# Altium schematic symbol library AU0005_1.SCHLIB: 83 symbols (part 2 of 2)
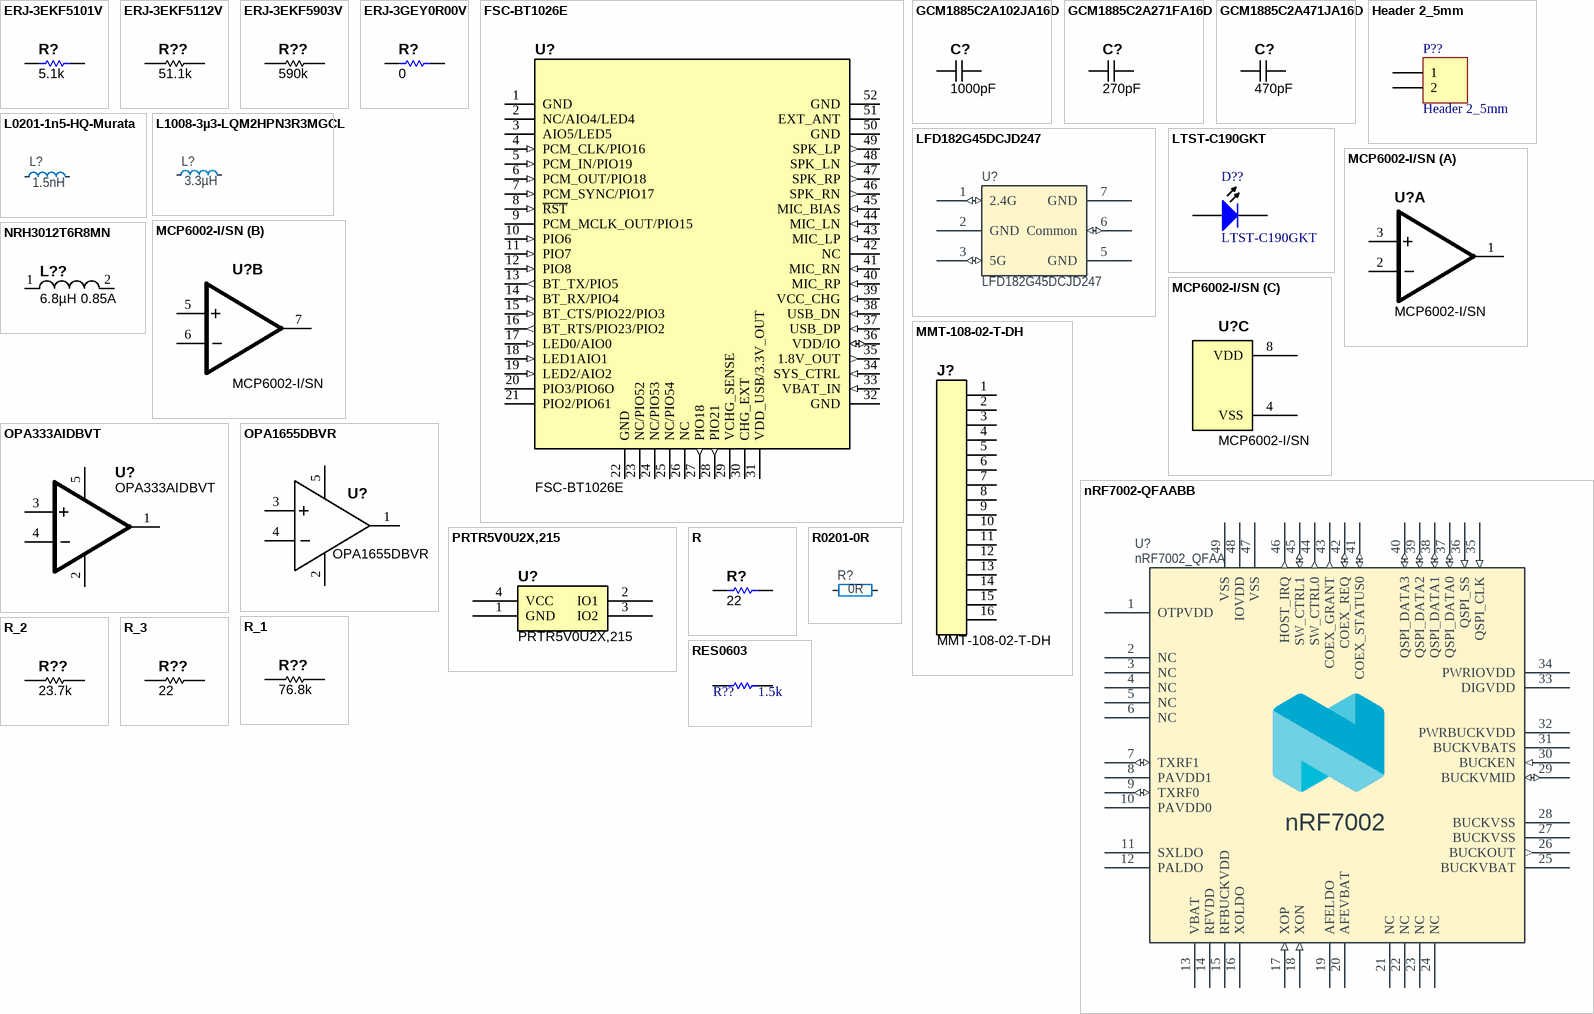
[diagram p3: symbols ERJ-3EKF5101V to RES0603]

## LTST-C190GKT
designator D??
LED Uni-Color Green 565nm 2-Pin Chip LED T/R; Manufacturer: Vishay Lite-On; Lens Color: Colorless; Luminous Intensity: 6mcd; Forward Voltage: 2.1V; Viewing Angle: 130°; Lens Style: Flat,Diffused,Colorless,Rectangular,Clear; Forward Current: 30mA; Dominant Wavelength: 569nm; Test Current: 10mA; Lens Transparency: Clear; Number of Elements: 1; Power Dissipation: 100mW; Reverse Voltage: 5V; Voltage: 2V; Lens Size: 0.8mm; Supplier: Arrow Electronics; Supplier Part Number: LTST-C190GKT; Manufacturer Part Number: LTST-C190GKT; RoHS: Yes; Category: LEDs; Stock: 236; Pricing: 1=0.21030, 10=0.13330, 25=0.13060, 100=0.06170, 500=0.05630, 1000=0.04410, 2000=0.04320, 8000=0.03750, 12000=0.03380, 28000=0.03000, 100000=0.02930 (USD); Mounting Technology: Surface Mount; Case/Package: 0603; Pins: 2; Color: Green; Case Code (Metric): 1608; Case Code (Imperial): 0603; Min Operating Temperature: -55°C; Max Operating Temperature: 85°C; Package Quantity: 1; Packaging: Tape and Reel; Illumination Color: Green; Wavelength: 565nm; Number of LEDs: 1; Power Rating: 100mW; Series: -; Length: 1.6mm; Width: 0.8mm; Height: 0.9mm; Depth: 0.8mm; Radiation Hardening: No; Lead Free: Lead Free; RoHS Compliant: Yes; ComponentLink1URL: https://datasheet.ciiva.com/2109/ltst-c190gkt-2109985.pdf?src-supplier=Digi-Key; ComponentLink1Description: https://datasheet.ciiva.com/2109/ltst-c190gkt-2109985.pdf?src-supplier=Digi-Key; ComponentLink2URL: https://datasheet.ciiva.com/12403/lite-on-ltst-c190gkt-187204-12403884.pdf?src-supplier=Mouser; ComponentLink2Description: https://datasheet.ciiva.com/12403/lite-on-ltst-c190gkt-187204-12403884.pdf?src-supplier=Mouser; ComponentLink3URL: https://datasheet.ciiva.com/16392/lite-on20ltst-c190gkt-16392818.pdf?src-supplier=Future+Electronics; ComponentLink3Description: https://datasheet.ciiva.com/16392/lite-on20ltst-c190gkt-16392818.pdf?src-supplier=Future+Electronics; ComponentLink4URL: https://datasheet.ciiva.com/11775/0900766b80dc02a6-11775616.pdf?src-supplier=Rs; ComponentLink4Description: https://datasheet.ciiva.com/11775/0900766b80dc02a6-11775616.pdf?src-supplier=Rs; ComponentLink5URL: https://datasheet.ciiva.com/2109/ltst-c190gkt-2109986.pdf?src-supplier=Digi-Key; ComponentLink5Description: https://datasheet.ciiva.com/2109/ltst-c190gkt-2109986.pdf?src-supplier=Digi-Key; ComponentLink6URL: https://datasheet.ciiva.com/2109/ltst-c190gkt-2109987.pdf?src-supplier=Digi-Key; ComponentLink6Description: https://datasheet.ciiva.com/2109/ltst-c190gkt-2109987.pdf?src-supplier=Digi-Key
footprint DIOC1606X06N (Chip Diode, 2-Leads, Body 1.60x0.65mm, IPC Medium Density)
pins: 1 A, 2 K

## MCP6002-I/SN
designator U?
IC OPAMP 1.8V 1MHZ DUAL 8-SOIC; Manufacturer: Microchip Technology; Amplifier Type: General Purpose; Number of Circuits: 2; Output Type: Rail-to-Rail; Slew Rate: 0.6 V/µs; Current - Input Bias: 1pA; Voltage - Input Offset: 4.5mV; Current - Supply: 100µA; Current - Output / Channel: 23mA; Voltage - Supply, Single/Dual (±): 1.8 V ~ 6 V; Value: MCP6002-I/SN; Supplier 1: Digi-Key; Supplier Part Number 1: MCP6002-I/SN-ND; Manufacturer Part Number: MCP6002-I/SN; RoHS: RoHS Compliant; Category: Integrated Circuits (ICs); Stock 1: 45024; Pricing 1: 1=0.4, 10=0.33, 25=0.28, 100=0.25 (USD); Packaging: Tube; Gain Bandwidth Product: 1MHz; -3db Bandwidth: -; Operating Temperature: -40°C ~ 85°C; Mounting Type: Surface Mount; Package / Case: 8-SOIC (0.154", 3.90mm Width); Supplier Device Package: 8-SOIC N; ComponentLink1URL: http://ww1.microchip.com/downloads/en/DeviceDoc/21733j.pdf; ComponentLink1Description: http://ww1.microchip.com/downloads/en/DeviceDoc/21733j.pdf
footprint SOIC 8
part A pins: 1 OUT, 2 -, 3 +
part B pins: 5 +, 6 -, 7 OUT
part C pins: 4 VSS, 8 VDD

## MMT-108-02-T-DH
designator J?
SAMTEC         MMT-108-02-T-DH             Board-To-Board Connector, MMT Series, 12 Contacts, Header, 2 mm, Surface Mount, 2 Rows; Number of Contacts: 12; Gender: Male; Pitch: 2mm; Value: MMT-108-02-T-DH; Manufacturer: Samtec; Manufacturer Part Number: MMT-108-02-T-DH; Stock 1: 0; Pricing 1: 1=1.83 (USD); Contact Plating: Nickel,Tin; Contact Material: Bronze; Housing Colour: Black; Housing Material: Polymer; Min Operating Temperature: -55°C; Max Operating Temperature: 105°C; Number of Rows: 2; Packaging: Bulk; Termination: Solder; Orientation: Right Angle; Length: 12mm; Depth: 12.67mm; Radiation Hardening: No; REACH SVHC: No SVHC; ComponentLink1URL: http://www.farnell.com/datasheets/1796420.pdf; ComponentLink1Description: http://www.farnell.com/datasheets/1796420.pdf; ComponentLink2URL: http://components.arrow.com/part/dataview/40189258S9202960N1004; ComponentLink2Description: http://components.arrow.com/part/dataview/40189258S9202960N1004; ComponentLink3URL: http://www.samtec.com/documents/webfiles/pdf/MMT_SM.PDF; ComponentLink3Description: http://www.samtec.com/documents/webfiles/pdf/MMT_SM.PDF
footprint MMT-108-02-T-DH
pins: 1, 2, 3, 4, 5, 6, 7, 8, 9, 10, 11, 12, 13, 14, 15 5, 16

## nRF7002-QFAABB
designator U?, comment nRF7002_QFAA
Wifi Dual Band Companion chip; Part Number: nRF7002-QFAABB; Manufacturer: Nordic Semiconductor; Component Status: Active; Pad Count: 49; Note: N.A.; Component Class: nRF_Devices; Author: hany; Manufacturer Part Number: nRF7002-QFAABB; ComponentLink1URL: N.A.; ComponentLink1Description: Datasheet; ComponentLink2URL: N.A.; ComponentLink2Description: Supplier link; HelpURL: N.A.; LatestRevisionDate: 2022-12-01; Published: 2022-12-01; Footprint Doc: QFN-48; Value: nRF7002; Supplier 1: Nordic Semiconductor; Supplier Part Number 1: nRF7002-QFAABB; Supplier 2: N.A.; Supplier Part Number 2: N.A.; Artikkelnr Noca: N.A.; Part number IPS: N.A.; Part number Norautron: N.A.
footprint QFN40P600X600X60-48N (QFN, 48-Leads, Body 6.1x6.1mm (max), Pitch 0.40mm, IPC Medium Density)
pins: 1 OTPVDD (power) "OTP write mode supply,  (2.25-2.75V)", 2 NC, 3 NC, 4 NC, 5 NC, 6 NC, 7 TXRF1 (io) "RF INOUT ,", 8 PAVDD1 (power) "Supply ,  (3.3V)", 9 TXRF0 (io) "RF INOUT ,", 10 PAVDD0 (power) "Supply ,  (3.3V)", 11 SXLDO (power) "Supply ,  (1.2V)", 12 PALDO (power) "Supply ,  (3.3V)", 13 VBAT (power) "Supply ,  (2.5-4.5V)", 14 RFVDD (power) "Supply ,  (1.8V)", 15 RFBUCKVDD (power) "Supply ,  (1.5V)", 16 XOLDO (power) "Supply ,  (1.2V)", 17 XOP (in) "40MHz crystal ,", 18 XON (in) "40MHz crystal ,", 19 AFELDO (power) "Supply ,  (1.8V)", 20 AFEVBAT (power) "Supply ,  (2.5-4.5V)", 21 NC, 22 NC, 23 NC, 24 NC, 25 BUCKVBAT (power) "Supply ,  (2.5-4.5V)", 26 BUCKOUT (out) "DCDC output", 27 BUCKVSS (power) "DCDC GND", 28 BUCKVSS (power) "DCDC GND", 29 BUCKVMID (io) "Voltage reference decoupling pin ,", 30 BUCKEN (in) "PWR IP enable pin ,", 31 BUCKVBATS (power) "Supply ,  (2.5-4.5V)", 32 PWRBUCKVDD (power) "Supply ,  (1.5V)", 33 DIGVDD (power) "Supply ,  (1.1V)", 34 PWRIOVDD (power) "internal IO supply, may be used for OTP read,  (1.8-3.3 V)", 35 QSPI_CLK (in) "QSPI Clock", 36 QSPI_SS (in) "QSPI  Slave select", 37 QSPI_DATA0 (io) "QSPI data 0/MOSI", 38 QSPI_DATA1 (io) "QSPI data 1/MISO", 39 QSPI_DATA2 (io) "QSPI data 2/NC", 40 QSPI_DATA3 (io) "QSPI data 3/NC", 41 COEX_STATUS0 (io) "Coex interface, DIGMON1 (O) / GPIO1 (O)", 42 COEX_REQ (io) "Coex interface, DIGMON0 (O) / GPIO0 (O)", 43 COEX_GRANT (out) "Coex interface, GPIO2 (O)", 44 SW_CTRL0 (out) "external switch control , GPIO3 (O)", 45 SW_CTRL1 (io) "external switch control , GPIO4 (O) / BT_COEX_STATUS1 (I)", 46 HOST_IRQ (out) "Host processor interrupt request , GPIO5 (O)", 47 VSS "Connect to GND", 48 IOVDD (power) "IO supply ,  (1.8-3.3 V)", 49 VSS (power) "Center Pad"

## NRH3012T6R8MN
designator L??, comment 6.8µH 0.85A
Inductor 6.8µH 0.85A; Manufacturer Part Number: NRH3012T6R8MN; Manufacturer: Taiyo Yuden; CategorySort: 300; Inductance (uH): 6.8; Tolerance: ±20%; DCR Max (Ohms): 228 mOhm Max; SRF typ (MHz): 43MHz; Isat (A): 0.85; IRMS: 0.89; Shielding: Sheilded; Category: Inductors; Value: 6.8µH 0.85A; ComponentLink1Description: External Datasheet; ComponentLink1URL: https://www.yuden.co.jp/productdata/catalog/en/wound04_e.pdf; Sort Value: 6.8_0.85; Sort Value Package: 6.8_0.85_NRH3012; Part Number: NRH3012T6R8MN; Supplier 1: Digikey; Supplier Part Number 1: 587-2592-1-ND; Supplier Unit Price 1: 0.28; Package: NRH3012; Height (mm): 1.2MM; Rating: -
footprint L_NRH3012
pins: 1, 2

## OPA333AIDBVT
designator U?
IC OPAMP 1.8V 0-DRIFT SOT23-5; Manufacturer: Texas Instruments; Manufacturer Part Number: OPA333AIDBVR; Amplifier Type: Zero-Drift; Number of Circuits: 1; Output Type: Rail-to-Rail; Slew Rate: 0.16 V/µs; Gain Bandwidth Product: 350kHz; Current - Input Bias: 70pA; Voltage - Input Offset: 2µV; Current - Supply: 17µA; Current - Output / Channel: 5mA; Voltage - Supply, Single/Dual (±): 1.8 V ~ 5.5 V, ±0.9 V ~ 2.75 V; Supplier 1: Digi-Key; Supplier Part Number 1: 296-26269-1-ND; RoHS: RoHS Compliant; Category: Integrated Circuits (ICs); Stock 1: 5227; Pricing 1: 1=2.6, 10=2.334, 100=1.8725, 500=1.539, 1000=1.06875 (USD); Packaging: Cut Tape (CT); -3db Bandwidth: -; Operating Temperature: -40°C ~ 125°C; Mounting Type: Surface Mount; Package / Case: SC-74A, SOT-753; Supplier Device Package: SOT-23-5; ComponentLink1URL: http://www.ti.com/lit/ds/symlink/opa333.pdf; ComponentLink1Description: http://www.ti.com/lit/ds/symlink/opa333.pdf; Value: OPA333AIDBVT
footprint SOT95P245X145-5L (SOT23, 5-Leads, Body 3.1x2.6mm (max), Pitch 0.95mm, IPC High Density)
pins: 1 OUT, 2 GND, 3 +, 4 -, 5 VCC

## OPA1655DBVR
designator U?
IC OPAMP Z RRO SOT23-5 Ultra Low Noise, Low Distortion, FET Input; Manufacturer: Texas Instruments; Manufacturer Part Number: OPA1655DBVR; Value: OPA1655DBVR
footprint SOT23-5 (SOT23, 5-Leads, Body 3.1x2.6mm (max), Pitch 0.95mm, IPC High Density)
pins: 1 OUT, 2 GND, 3 +, 4 -, 5 VCC

## PRTR5V0U2X,215
designator U?
TVS DIODE 5.5VWM SOT143B; Manufacturer: NXP Semiconductors; Bidirectional Channels: 2; Voltage - Reverse Standoff (Typ): 5.5V (Max); Voltage - Breakdown (Min): 6V; Power Line Protection: Yes; Capacitance @ Frequency: 1pF @ 1MHz; Supplier 1: Digi-Key; Supplier Part Number 1: 568-4140-1-ND; Manufacturer Part Number: PRTR5V0U2X,215; RoHS: RoHS Compliant; Category: Circuit Protection; Stock: 11734; Pricing: 1=0.57, 10=0.477, 25=0.418, 100=0.3578, 250=0.31036, 500=0.26286, 1000=0.20265 (USD); Packaging: Cut Tape (CT); Type: Steering (Rail to Rail); Unidirectional Channels: -; Voltage - Clamping (Max) @ Ipp: -; Current - Peak Pulse (10/1000µs): -; Power - Peak Pulse: -; Applications: General Purpose; Operating Temperature: -40°C ~ 85°C (TA); Mounting Type: Surface Mount; Package / Case: TO-253-4, TO-253AA; Supplier Device Package: SOT-143B; ComponentLink1URL: http://www.nxp.com/documents/data_sheet/PRTR5V0U2X.pdf; ComponentLink1Description: http://www.nxp.com/documents/data_sheet/PRTR5V0U2X.pdf; Value: PRTR5V0U2X,215
footprint SOT143B
pins: 1 GND, 2 IO1, 3 IO2, 4 VCC
1 alternate drawing of the same symbol

## R
designator R?, comment 22
1k; Value: 1k; ComponentLink1URL: http://industrial.panasonic.com/www-cgi/jvcr13pz.cgi?E+PZ+3+AOA0002+ERJ3EKF10R0V+7+WW; ComponentLink1Description: http://industrial.panasonic.com/www-cgi/jvcr13pz.cgi?E+PZ+3+AOA0002+ERJ3EKF10R0V+7+WW
footprint R0603 (0603 Generic)
footprint R0603_0.55MM_HD (Resistor 0603 High Density)
footprint R0603_0.55MM_MD (Resistor 0603 Medium Density)
footprint R0603_0.55MM_LD (Resistor 0603 Low Density)
footprint R0805_0.65MM_HD (Resistor 0805 High Density)
footprint R0805_0.65MM_MD (Resistor 0805 Medium Density)
footprint R0805_0.65MM_LD (Resistor 0805 Low Density)
pins: 1, 2

## R0201-0R
designator R?, comment 0R
Resistor, ±5%, 0.05W; Part Number: R0201-0R; Manufacturer: N.A.; Part number IPS: 00000003245; Part number NEMS: 100100001; Pad Count: 2; Note: Chip Res 5%; Component Status: Active; PartId: 100100001; Component Class: Resistors; Author: rsk; Manufacturer Part Number: N.A.; ComponentLink1URL: N.A.; ComponentLink1Description: Datasheet; ComponentLink2URL: N.A.; ComponentLink2Description: Supplier link; HelpURL: N.A.; Footprint Doc: 0201; LatestRevisionDate: 2017-11-09; Published: 2014-11-13; Value: 0R; Supplier 1: N.A.; Supplier Part Number 1: N.A.; Supplier 2: N.A.; Supplier Part Number 2: N.A.; Artikkelnr Noca: N.A.; Part number Norautron: N.A.
footprint RESC0603X03L_C (Chip Resistor, 2-Leads, Body 0.6x0.3mm, IPC High Density)
pins: 1, 2

## R_1
designator R??, comment 76.8k
Generic Resistor; Manufacturer: *; Manufacturer Part Number: *; Substitution Notes: *; Value: 76.8k
footprint R0603_0.55MM_MD (Resistor 0603 Medium Density)
pins: 1, 2

## R_2
designator R??, comment 23.7k
Generic Resistor; Manufacturer: *; Manufacturer Part Number: *; Substitution Notes: *; Value: 23.7k
footprint R0603_0.55MM_MD (Resistor 0603 Medium Density)
pins: 1, 2

## R_3
designator R??, comment 22
Generic Resistor; Manufacturer: *; Manufacturer Part Number: *; Substitution Notes: *; Value: 22
footprint R0603_0.55MM_MD (Resistor 0603 Medium Density)
pins: 1, 2

## RES0603
designator R??, comment Resistance (Ohms): 1.5k  (hidden comment: GENERIC 0603 RESISTOR NC)
footprint RESC1608X06N (Chip Resistor, 2-Leads, Body 1.60x0.85mm, IPC Medium Density)
pins: 1, 2

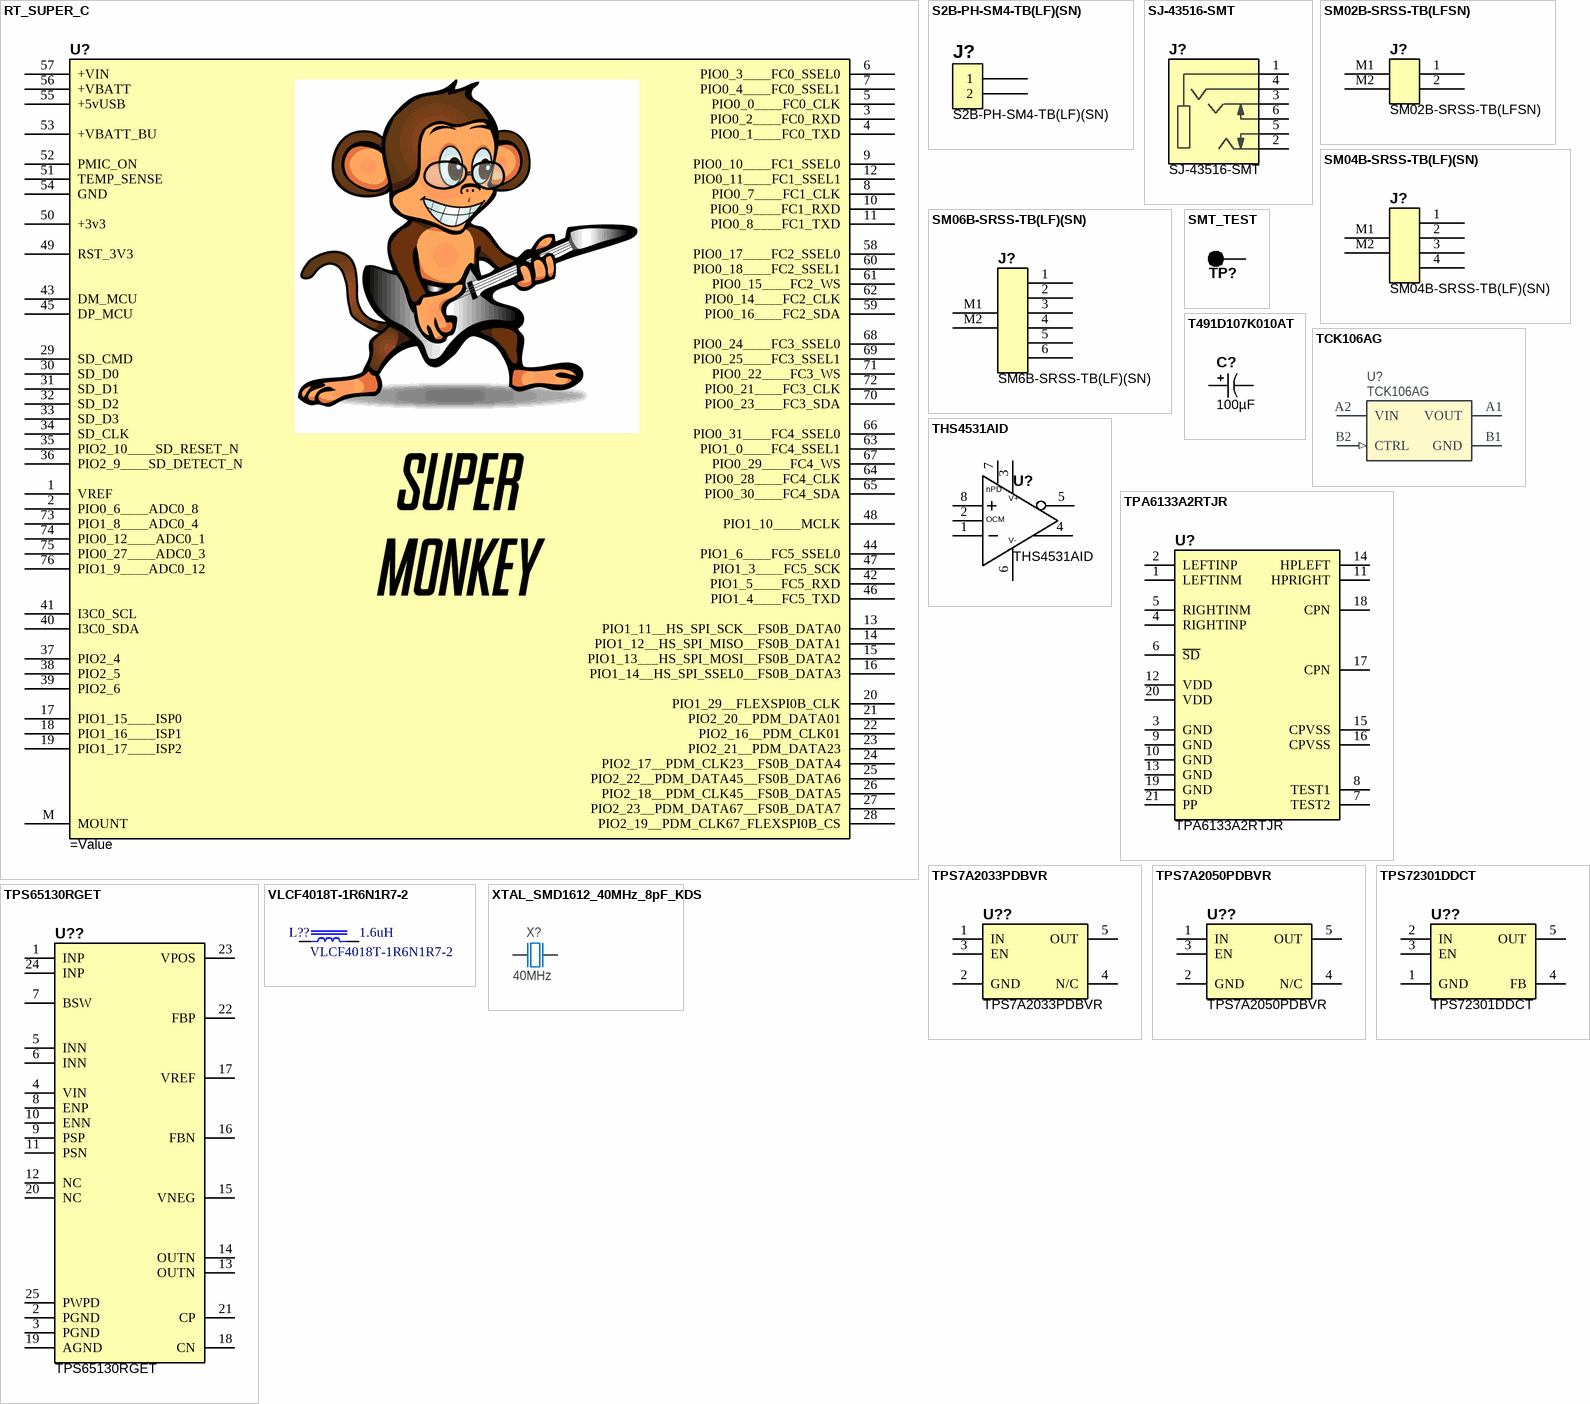
[diagram p2: symbols RT_SUPER_C to XTAL_SMD1612_40MHz_8pF_KDS]

## RT_SUPER_C
designator U?
Super Monkey Rev C
footprint RT_SUPER_C
pins: 1 VREF, 2 PIO0_6____ADC0_8, 3 PIO0_2____FC0_RXD, 4 PIO0_1____FC0_TXD, 5 PIO0_0____FC0_CLK, 6 PIO0_3____FC0_SSEL0, 7 PIO0_4____FC0_SSEL1, 8 PIO0_7____FC1_CLK, 9 PIO0_10____FC1_SSEL0, 10 PIO0_9____FC1_RXD, 11 PIO0_8____FC1_TXD, 12 PIO0_11____FC1_SSEL1, 13 PIO1_11__HS_SPI_SCK__FS0B_DATA0, 14 PIO1_12__HS_SPI_MISO__FS0B_DATA1, 15 PIO1_13___HS_SPI_MOSI__FS0B_DATA2, 16 PIO1_14__HS_SPI_SSEL0__FS0B_DATA3, 17 PIO1_15____ISP0, 18 PIO1_16____ISP1, 19 PIO1_17____ISP2, 20 PIO1_29__FLEXSPI0B_CLK, 21 PIO2_20__PDM_DATA01, 22 PIO2_16__PDM_CLK01, 23 PIO2_21__PDM_DATA23, 24 PIO2_17__PDM_CLK23__FS0B_DATA4, 25 PIO2_22__PDM_DATA45__FS0B_DATA6, 26 PIO2_18__PDM_CLK45__FS0B_DATA5, 27 PIO2_23__PDM_DATA67__FS0B_DATA7, 28 PIO2_19__PDM_CLK67_FLEXSPI0B_CS, 29 SD_CMD, 30 SD_D0, 31 SD_D1, 32 SD_D2, 33 SD_D3, 34 SD_CLK, 35 PIO2_10____SD_RESET_N, 36 PIO2_9____SD_DETECT_N, 37 PIO2_4, 38 PIO2_5, 39 PIO2_6, 40 I3C0_SDA, 41 I3C0_SCL, 42 PIO1_5____FC5_RXD, 43 DM_MCU, 44 PIO1_6____FC5_SSEL0, 45 DP_MCU, 46 PIO1_4____FC5_TXD, 47 PIO1_3____FC5_SCK, 48 PIO1_10____MCLK, 49 RST_3V3, 50 +3v3, 51 TEMP_SENSE, 52 PMIC_ON, 53 +VBATT_BU, 54 GND, 55 +5vUSB, 56 +VBATT, 57 +VIN, 58 PIO0_17____FC2_SSEL0, 59 PIO0_16____FC2_SDA, 60 PIO0_18____FC2_SSEL1, 61 PIO0_15____FC2_WS, 62 PIO0_14____FC2_CLK, 63 PIO1_0____FC4_SSEL1, 64 PIO0_28____FC4_CLK, 65 PIO0_30____FC4_SDA, 66 PIO0_31____FC4_SSEL0, 67 PIO0_29____FC4_WS, 68 PIO0_24____FC3_SSEL0, 69 PIO0_25____FC3_SSEL1, 70 PIO0_23____FC3_SDA, 71 PIO0_22____FC3_WS, 72 PIO0_21____FC3_CLK, 73 PIO1_8____ADC0_4, 74 PIO0_12____ADC0_1, 75 PIO0_27____ADC0_3, 76 PIO1_9____ADC0_12, M MOUNT

## S2B-PH-SM4-TB(LF)(SN)
designator J?
CONN HEADER PH SIDE 2POS 2MM SMD; Manufacturer: JST Sales America Inc; Connector Type: Header, Shrouded; Number of Positions: 2; Number of Positions Loaded: All; Pitch: 0.079" (2.00mm); Value: S2B-PH-SM4-TB(LF)(SN); Supplier 1: Digi-Key; Supplier Part Number 1: 455-1749-1-ND; Manufacturer Part Number: S2B-PH-SM4-TB(LF)(SN); RoHS: RoHS Compliant; Category: Connectors, Interconnects; Stock 1: 17700; Pricing 1: 1=0.5, 10=0.457, 100=0.3809, 500=0.3047 (USD); Contact Type: Male Pin; Number of Rows: 1; Row Spacing: -; Contact Mating Length: -; Mounting Type: Surface Mount, Right Angle; Termination: Solder; Fastening Type: -; Features: Solder Retention; Contact Finish: Tin; Contact Finish Thickness: -; Color: Natural; Packaging: Cut Tape (CT); ComponentLink1URL: http://www.jst-mfg.com/product/pdf/eng/ePH.pdf; ComponentLink1Description: http://www.jst-mfg.com/product/pdf/eng/ePH.pdf
footprint S2B-PH-SM4-TB(LF)(SN) (CONN HEADER PH SIDE 2POS 2MM SMD)
pins: 1, 2

## SJ-43516-SMT
designator J?
Conn 3.5MM Audio Jack F 6 POS Solder RA SMD 6 Terminal 1 Port; Manufacturer: CUI Devices; Manufacturer Part Number: SJ-43516-SMT-TR; Value: SJ-43516-SMT; Package: 3.5MM SMD R/A; Price: $1.24; Availability: Available
footprint CUI_SJ-43516-SMT
pins: 1 SLEEVE, 2 TIP, 3 RING1, 4 RING2, 5 TIP_SWITCH, 6 RING_SWITCH

## SM02B-SRSS-TB(LFSN)
designator J?
JST SH Series, 1mm Pitch 2 Way 1 Row Right Angle PCB Header, Solder Termination, 1A; Number of Contacts: 2; Voltage Rating: 50V; Value: SM02B-SRSS-TB(LFSN); Manufacturer Part Number: SM02B-SRSS-TB(LFSN); Manufacturer: JST; Supplier 1: Digi-Key; Supplier Part Number 1: 455-1802-1-ND; Stock 1: 36619; Pricing 1: 1=0.44, 10=0.415, 100=0.3185, 500=0.277, 1000=0.22852 (USD); Contact Material: Copper Alloy; Number of Rows: 1; Termination: Solder; Orientation: Right Angle; Current Rating: 1A; Pitch: 1mm; ComponentLink1URL: https://datasheet.ciiva.com/11746/0900766b805b098a-11746439.pdf; ComponentLink1Description: https://datasheet.ciiva.com/11746/0900766b805b098a-11746439.pdf
footprint SM02B-SRSS-TB(LF)(SN) (CONN HEADER SH 2POS SIDE 1MM TIN)
pins: 1, 2, M1, M2

## SM04B-SRSS-TB(LF)(SN)
designator J?
Conn Shrouded Header HDR 4 POS 1mm Solder RA SMD T/R; Manufacturer: JST; Number of Positions: 4; Connector Type: Male Pin; Contact Resistance: 40mR; Max Current Rating: 1A; Max Voltage Rating (AC): 50V; Pitch: 0.039inch; Value: SM04B-SRSS-TB(LF)(SN); Supplier 1: Digi-Key; Manufacturer Part Number: SM04B-SRSS-TB(LF)(SN); Stock 1: 43886; Pricing 1: 1=0.61, 10=0.569, 100=0.436, 500=0.37914, 1000=0.31279 (USD); Mount: Surface Mount; Contact Material: Copper Alloy; Contact Plating: Copper,Tin; Colour: Natural; Housing Colour: Beige; Housing Material: Polyamide; Min Operating Temperature: -25°C; Max Operating Temperature: 85°C; Number of Rows: 1; Termination: Solder; Packaging: Tape and Reel; Orientation: Right Angle; Number of Contacts: 4; Max Voltage Rating (DC): 50V; Length: 6mm; Depth: 4.95mm; Lead Free: Lead Free; ComponentLink1URL: https://datasheet.ciiva.com/26894/getdatasheetpartid-499363-26894945.pdf; ComponentLink1Description: https://datasheet.ciiva.com/26894/getdatasheetpartid-499363-26894945.pdf; ComponentLink2URL: https://datasheet.ciiva.com/26894/getdatasheetpartid-640736-26894676.pdf; ComponentLink2Description: https://datasheet.ciiva.com/26894/getdatasheetpartid-640736-26894676.pdf; ComponentLink3URL: https://datasheet.ciiva.com/16487/jstsm04b-srss-tb-lf-sn-16487222.pdf; ComponentLink3Description: https://datasheet.ciiva.com/16487/jstsm04b-srss-tb-lf-sn-16487222.pdf; Supplier Part Number 1: 455-1804-1-ND
footprint SM04B-SRSS-TB(LF)(SN) (CONN HEADR SH 4POS SIDE 1MM TIN)
pins: 1, 2, 3, 4, M1, M2

## SM06B-SRSS-TB(LF)(SN)
designator J?, comment SM6B-SRSS-TB(LF)(SN)
6 Positions Header, Shrouded Connector 0.039" (1.00mm) Surface Mount, Right Angle Tin; Manufacturer: JST; Manufacturer Part Number: SM06B-SRSS-TB(LF)(SN); Number of Positions: 6; Connector Type: Male Pin; Contact Resistance: 40mR; Pitch: 1mm; Current Rating: 1A; Voltage Rating (AC): 50V; Insulation Resistance: 100MR; Gender: Male; Value: SM6B-SRSS-TB(LF)(SN); Supplier 1: Digi-Key; Stock 1: 40560; Pricing 1: 1=0.83, 10=0.782, 100=0.5996, 500=0.5214, 1000=0.4301 (USD); Mount: Surface Mount; Contact Material: Copper,Copper Alloy; Contact Plating: Copper,Tin,Lead; Colour: Natural; Housing Colour: Beige; Housing Material: Polyamide; Min Operating Temperature: -25°C; Max Operating Temperature: 85°C; Number of Rows: 1; Termination: Solder; Packaging: Tape and Reel; Orientation: Right Angle; Number of Contacts: 6; Lead Free: Lead Free; ComponentLink1URL: https://datasheet.ciiva.com/11752/0900766b8082f544-11752176.pdf; ComponentLink1Description: https://datasheet.ciiva.com/11752/0900766b8082f544-11752176.pdf; ComponentLink2URL: https://datasheet.ciiva.com/16217/sm06b-srss-tblfsn-16217552.pdf; ComponentLink2Description: https://datasheet.ciiva.com/16217/sm06b-srss-tblfsn-16217552.pdf; ComponentLink3URL: https://datasheet.ciiva.com/26894/getdatasheetpartid-490708-26894951.pdf; ComponentLink3Description: https://datasheet.ciiva.com/26894/getdatasheetpartid-490708-26894951.pdf; Supplier Part Number 1: 455-1806-1-ND; Material: Polyamide; Voltage Rating: 50V; Lead Pitch: 1mm; REACH SVHC: No SVHC; Flammability Rating: UL94 V-0; ComponentLink4URL: https://datasheet.ciiva.com/26894/getdatasheetpartid-639890-26894680.pdf; ComponentLink4Description: https://datasheet.ciiva.com/26894/getdatasheetpartid-639890-26894680.pdf; ComponentLink5URL: https://datasheet.ciiva.com/8052/91630-8052281.pdf; ComponentLink5Description: https://datasheet.ciiva.com/8052/91630-8052281.pdf; ComponentLink6URL: https://datasheet.ciiva.com/712/esr-712571.pdf; ComponentLink6Description: https://datasheet.ciiva.com/712/esr-712571.pdf; Max Current Rating: 1A; Max Voltage Rating (AC): 50V; Max Voltage Rating (DC): 50V; Length: 8mm; Depth: 4.95mm; ComponentLink7URL: https://datasheet.ciiva.com/712/esr-712572.pdf; ComponentLink7Description: https://datasheet.ciiva.com/712/esr-712572.pdf; ComponentLink8URL: https://datasheet.ciiva.com/730/esr-730671.pdf; ComponentLink8Description: https://datasheet.ciiva.com/730/esr-730671.pdf
footprint SM06B-SRSS-TB(LF)(SN) (CONN HEADR SH 6POS SIDE 1MM TIN)
pins: 1, 2, 3, 4, 5, 6, M1, M2

## SMT_TEST
designator TP?  (value not drawn)  (no BOM)
Value: SMT_TEST
footprint SMT_TP - 35 (.035" SMT Test pad)
footprint SMT_TP - 25 (.025" SMT Test pad)
footprint SMT_TP - 50 (.050" SMT Test pad)
footprint SMT_TP - 75 (.075" SMT Test pad)
footprint SMT_TP - 100 (.100" SMT Test pad)
footprint SMT_TP - 20 (.020" SMT Test pad)
footprint SMT_TP - 25 x 50 (.025" x .050" SMT Test pad)
pins: 1

## T491D107K010AT
designator C?, comment 100µF
CAP TANT 100UF 10V 10% 2917; Manufacturer Part Number: T491D107K010AT; Manufacturer: Kemet; ESR (Equivalent Series Resistance): 700 mOhm; Type: Molded; Package1: 2917 (7343 Metric); Lifetime @ Temp#: 2000 Hrs @ 85°C; Value_Voltage: 100µF_10V; Value: 100µF; Temperature Coefficient: Temperature Coefficient; ComponentLink1Description: Internal Datasheet; ComponentLink1URL: http://www.kemet.com/Lists/ProductCatalog/Attachments/254/KEM_T2005_T491.pdf; ComponentLink2Description: External Datasheet; ComponentLink2URL: http://www.kemet.com/Lists/ProductCatalog/Attachments/254/KEM_T2005_T491.pdf; Stocked: 0; Supplier 1: Digi-Key; Supplier Part Number 1: 399-3769-1-ND; Category: Capacitors; Sort Value: 100000000; Package: D; Sort Value Package: D_100000000; Capacitance: 100µF; Voltage - Rated: 10V; Tolerance: ±10%; Operating Temperature: -55°C ~ 125°C; Mounting Type: Surface Mount; Size / Dimension: 0.287" L x 0.169" W (7.30mm x 4.30mm); Height - Seated (Max): 0.122" (3.10mm); Lead Spacing: -; Features: General Purpose; Packaging: Cut Tape (CT)
footprint C_TANT_D_HD
footprint C_TANT_D_MD
footprint C_TANT_D_LD
pins: 1, 2 1

## TCK106AG
designator U?
1.0 A Load Switch IC with Slew Rate Control Driver in Ultra Small Package; Manufacturer: Toshiba; Manufacturer Part Number: TCK106AG,LF; Part number IPS: 00000004390; Part number Norautron: 26500627; Part number NEMS: 101900575; Note: N.A.; Pad Count: 4; Component Status: Active; Part Number: TCK106AG; ComponentLink1URL: https://toshiba.semicon-storage.com/info/docget.jsp?did=30131&prodName=TCK106AG; ComponentLink1Description: Datasheet; ComponentLink2URL: N.A.; ComponentLink2Description: Supplier link; HelpURL: N.A.; Footprint Doc: WLCSP-4; LatestRevisionDate: 2019-03-01; Published: 2019-02-17; Value: TCK106AG; Supplier 1: Digi-Key; Supplier Part Number 1: TCK106AGLFTR-ND; Supplier 2: Mouser; Supplier Part Number 2: 757-TCK106AGLF; Artikkelnr Noca: N.A.; Component Class: Misc_ICs; PartId: 101900575; Author: rsk
footprint BGA4C40P2X2_76X76X62 (BGA, 4-Leads, Body 0.8x0.8mm,  Pitch 0.40mm)
pins: A1 VOUT (power), A2 VIN (power), B1 GND (power), B2 CTRL (in)

## THS4531AID
designator U?
Operational Amplifiers - Op Amps Ultra Lo Pwr RRO Fully-Diff Amp; Manufacturer: Texas Instruments; Voltage Gain: 114dB; Common Mode Rejection Ratio: 90dB; Slew Rate: 15V/µs; Number of Channels: 1; Input Bias Current: 200nA; Input Offset Voltage (Vos): 100uV; Min Supply Voltage: 2.5V; Max Supply Voltage: 5.5V; Gain Bandwidth Product: 27MHz; Operating Supply Current: 250uA; Amplifier Type: GENERAL PURPOSE; Min Dual Supply Voltage: 1.25V; Max I/O Voltage: 400uV; Max Dual Supply Voltage: 2.75V; Output Current: 50mA; Nominal Gain Bandwidth Product: 36MHz; Power Supply Rejection Ratio (PSRR): 87dB; Supplier 1: Digi-Key; Manufacturer Part Number: THS4531AID; RoHS: Yes; Category: Amplifiers - Op Amps, Buffer, Instrumentation; Stock 1: 3055; Pricing 1: 1=4.06000, 10=3.65000, 25=3.45120, 100=2.99090, 250=2.83756, 500=2.54614, 1000=2.53225 (USD); Case/Package: D; Number of Pins: 8; Min Operating Temperature: -40°C; Max Operating Temperature: 125°C; Package Quantity: 75; Packaging: Rail/Tube; Number of Circuits: 1; Number of Elements: 1; Series: -; Number of Amplifiers: 1; Nominal Supply Current: 250uA; Supply Current: 250uA; Unity Gain Bandwidth Product: 27MHz; Bandwidth: 36MHz; Max Supply Current: 250uA; Length: 5mm; Width: 4mm; Height: 1.5mm; Radiation Hardening: No; Lead Free: Lead Free; REACH SVHC: No SVHC; ComponentLink1URL: https://datasheet.ciiva.com/6630/ths4531a-6630465.pdf?src-supplier=Digi-Key; ComponentLink1Description: https://datasheet.ciiva.com/6630/ths4531a-6630465.pdf?src-supplier=Digi-Key; ComponentLink2URL: https://datasheet.ciiva.com/22657/1698036-22657688.pdf?src-supplier=Element14; ComponentLink2Description: https://datasheet.ciiva.com/22657/1698036-22657688.pdf?src-supplier=Element14; ComponentLink3URL: https://datasheet.ciiva.com/28429/ths4531a-28429749.pdf?src-supplier=Avnet+Europe; ComponentLink3Description: https://datasheet.ciiva.com/28429/ths4531a-28429749.pdf?src-supplier=Avnet+Europe; Value: THS4531AID; Supplier Part Number 1: 296-35604-5-ND
footprint SOIC 8
pins: 1 -, 2 OCM, 3 VS+, 4 OUT+, 5 OUT-, 6 VS-, 7 PD, 8 +
text: nPD; V+; V-

## TPA6133A2RTJR
designator U?
138mW DirectPath Headphone Amplifier with GPIO control; Manufacturer: Texas Instruments; Geometry.Height: 0.8mm; Mouser Part Number: 595-TPA6133A2RTJR; Mouser Price/Stock: https://www.mouser.co.uk/ProductDetail/Texas-Instruments/TPA6133A2RTJR?qs=xahoIJ7Tb4BkyS7VmN%2FRcw%3D%3D; Manufacturer Part Number: TPA6133A2RTJR; Datasheet Link: http://www.ti.com/lit/gpn/tpa6133a2; Value: TPA6133A2RTJR
footprint QFN20 (QFN, 20-Leads, Body 4.0x4.0mm (max), Pitch 0.50mm, IPC High Density)
pins: 1 LEFTINM, 2 LEFTINP, 3 GND, 4 RIGHTINP, 5 RIGHTINM, 6 ~{SD}, 7 TEST2, 8 TEST1, 9 GND, 10 GND, 11 HPRIGHT, 12 VDD (power), 13 GND, 14 HPLEFT, 15 CPVSS (power), 16 CPVSS (power), 17 CPN (power), 18 CPN (power), 19 GND, 20 VDD (power), 21 PP

## TPS7A2033PDBVR
designator U??
+3v3, 300-mA, ultra-low-noise, low-IQ, low-dropout (LDO) linear regulator with high PSRR 5-SOT-23 -40 to 125; Manufacturer: Texas Instruments; Manufacturer Part Number: TPS7A20533DBVR; Supplier: Mouser; Supplier Part Number: 595-TPS7A2033PDBVR; RoHS: Yes; Category: Voltage Regulators - Linear; Stock: 73824; Pricing: 1=0.49000, 10=0.41800, 50=0.41800, 100=0.29000, 1000=0.19000, 10000=0.15200 (USD); RoHS Compliant: Yes; Value: TPS7A2033PDBVR
footprint SOT23-5 (SOT23, 5-Leads, Body 3.1x2.6mm (max), Pitch 0.95mm, IPC High Density)
pins: 1 IN, 2 GND, 3 EN, 4 N/C, 5 OUT

## TPS7A2050PDBVR
designator U??
300-mA, ultra-low-noise, low-IQ, low-dropout (LDO) linear regulator with high PSRR 5-SOT-23 -40 to 125; Manufacturer: Texas Instruments; Supplier: Mouser; Supplier Part Number: 595-TPS7A2050PDBVR; Manufacturer Part Number: TPS7A2050PDBVR; RoHS: Yes; Category: Voltage Regulators - Linear; Stock: 73824; Pricing: 1=0.49000, 10=0.41800, 50=0.41800, 100=0.29000, 1000=0.19000, 10000=0.15200 (USD); RoHS Compliant: Yes
footprint SOT23-5 (SOT23, 5-Leads, Body 3.1x2.6mm (max), Pitch 0.95mm, IPC High Density)
pins: 1 IN, 2 GND, 3 EN, 4 N/C, 5 OUT

## TPS65130RGET
designator U??
Split-Rail Converter with Dual, Positive and Negative Outputs (300mA typ) 24-VQFN -40 to 85; Manufacturer: Texas Instruments; Output Voltage: 15V; Output Current: 800mA; Switching Frequency: 1.4MHz; Number of Outputs: 2; Max Output current: 2A; Efficiency: 85%; Max Supply Voltage: 5.5V; Min Input Voltage: 2.7V; Min Output Voltage: -2V; Max Output Voltage: -15V; Synchronous Rectifier: No; Quiescent Current: 500uA; Topology: Buck-Boost,Boost; Output Type: Adjustable; Frequency: 1.38MHz; Nominal Supply Current: 300uA; Max Power Dissipation: 2.646W; Supplier: Mouser; Supplier Part Number: 595-TPS65130RGET; Manufacturer Part Number: TPS65130RGET; RoHS: Yes; Category: Voltage Regulators - Switching; Stock: 416; Pricing: 1=3.26000, 10=2.93000, 25=2.77000, 50=2.77000, 100=2.40000, 250=2.27000, 500=2.04000, 1000=1.74000, 2500=1.68000, 5000=1.62000, 10000=1.78000 (USD); Case/Package: VQFN; Pins: 24; Weight: 0.001524oz; Contact Plating: Gold; Min Operating Temperature: -40°C; Max Operating Temperature: 85°C; Packaging: Tape and Reel; Package Quantity: 250; Series: -; Operating Supply Voltage: 5.5V; Min Supply Voltage: 2.7V; Current - Output 1: 800mA; Current - Output 2: 800mA; Voltage - Output 1: 15V; Voltage - Output 2: -2V; Termination: SMD/SMT; Supply Current: 300uA; Length: 4mm; Width: 4mm; Height: 0.88mm; Radiation Hardening: No; Lead Free: Lead Free; Reach SVHC Compliant: Yes; RoHS Compliant: Yes; ComponentLink1URL: https://datasheet.ciiva.com/15113/getdatasheetpartid-188374-15113785.pdf?src-supplier=Verical; ComponentLink1Description: https://datasheet.ciiva.com/15113/getdatasheetpartid-188374-15113785.pdf?src-supplier=Verical; ComponentLink2URL: https://datasheet.ciiva.com/2035/tps65130-2035493.pdf?src-supplier=Digi-Key; ComponentLink2Description: https://datasheet.ciiva.com/2035/tps65130-2035493.pdf?src-supplier=Digi-Key
footprint QFN50P400X400X100_HS-25N (QFN, 24-Leads, Body 4.00x4.00mm, Pitch 0.50mm, Thermal Pad 2.45x2.45mm, IPC Medium Density)
pins: 1 INP, 2 PGND, 3 PGND, 4 VIN, 5 INN, 6 INN, 7 BSW, 8 ENP, 9 PSP, 10 ENN, 11 PSN, 12 NC, 13 OUTN, 14 OUTN, 15 VNEG, 16 FBN, 17 VREF, 18 CN, 19 AGND, 20 NC, 21 CP, 22 FBP, 23 VPOS, 24 INP, 25 PWPD

## TPS72301DDCT
designator U??
LDO Regulator Neg -1.2V to -10V 0.2A 5-Pin TSOT-23 T/R / IC REG LDO NEG ADJ 0.2A SOT23-5; Manufacturer: Texas Instruments; Output Current: 200mA; Output Voltage: -1.162V; Max Supply Voltage: -2.7V; Dropout Voltage: 280mV; Number of Outputs: 1; Min Current Limit: 300mA; Polarity: Negative; Quiescent Current: 200uA; Accuracy: 1%; Operating Supply Current: 130nA; Power Supply Rejection Ratio (PSRR): 48dB; Reference Voltage: -1.186V; Output Type: Adjustable; Max Supply Current: 500uA; Supplier: Mouser; Supplier Part Number: 595-TPS72301DDCT; Manufacturer Part Number: TPS72301DDCT; RoHS: Yes; Category: Voltage Regulators - Linear; Stock: 437; Pricing: 1=3.43000, 10=3.08000, 50=2.91000, 100=2.52000, 1000=1.82000, 10000=1.76000 (USD); Mounting Technology: Surface Mount; Case/Package: SOT; Pins: 5; Weight: 0.000459oz; Min Operating Temperature: -40°C; Max Operating Temperature: 125°C; Min Input Voltage: -10V; Packaging: Tape and Reel; Max Output current: 200mA; Number of Regulators: 1; Min Output Voltage: -1.2V; Max Output Voltage: -10V; Package Quantity: 250; Series: -; Output Configuration: Negative; Radiation Hardening: No; Reach SVHC Compliant: Yes; Lead Free: Lead Free; RoHS Compliant: Yes; ComponentLink1URL: http://www.ti.com/general/docs/lit/getliterature.tsp?genericPartNumber=TPS723&amp;&amp;fileType=pdf&src-supplier=Farnell; ComponentLink1Description: http://www.ti.com/general/docs/lit/getliterature.tsp?genericPartNumber=TPS723&amp;&amp;fileType=pdf&src-supplier=Farnell; ComponentLink2URL: http://www.farnell.com/datasheets/1904669.pdf?src-supplier=Element14; ComponentLink2Description: http://www.farnell.com/datasheets/1904669.pdf?src-supplier=Element14; ComponentLink3URL: http://www.ti.com/general/docs/suppproductinfo.tsp?distId=10&amp;gotoUrl=http%3A%2F%2Fwww.ti.com%2Flit%2Fgpn%2Ftps723&src-supplier=Digi-Key; ComponentLink3Description: http://www.ti.com/general/docs/suppproductinfo.tsp?distId=10&amp;gotoUrl=http%3A%2F%2Fwww.ti.com%2Flit%2Fgpn%2Ftps723&src-supplier=Digi-Key; ComponentLink4URL: http://www.ti.com/lit/gpn/tps723?src-supplier=Mouser; ComponentLink4Description: http://www.ti.com/lit/gpn/tps723?src-supplier=Mouser; ComponentLink5URL: http://www.ti.com/general/docs/lit/getliterature.tsp?genericPartNumber=TPS723&&fileType=pdf&src-supplier=Avnet; ComponentLink5Description: http://www.ti.com/general/docs/lit/getliterature.tsp?genericPartNumber=TPS723&&fileType=pdf&src-supplier=Avnet
footprint SOT23-5 (SOT23, 5-Leads, Body 3.1x2.6mm (max), Pitch 0.95mm, IPC High Density)
pins: 1 GND, 2 IN, 3 EN, 4 FB, 5 OUT

## VLCF4018T-1R6N1R7-2
designator L??  Inductance: 1.6uH
Inductor Power Shielded Wirewound 1.6uH 30% 100KHz Ferrite 2.42A 51mOhm DCR 1515 Blister T/R; Manufacturer: TDK; Saturation Current: 1.72A; DC Resistance (DCR): 51mR; Supplier: Arrow Electronics; Supplier Part Number: VLCF4018T-1R6N1R7-2; Manufacturer Part Number: VLCF4018T-1R6N1R7-2; RoHS: Yes; Category: Fixed Inductors; Stock: 346; Pricing: 1=0.74920, 10=0.56880, 25=0.56320, 100=0.46790, 250=0.46320 (USD); Mounting Technology: Surface Mount; Case/Package: Nonstandard; Core Material: Ferrite; Case Code (Metric): 4018; Min Operating Temperature: -40°C; Max Operating Temperature: 105°C; Inductance Tolerance: 30%; Packaging: Tape and Reel; Tolerance: 30%; Shielding: Shielded; Test Frequency: 100kHz; Max DC Current: 1.72A; Termination: SMD/SMT; RMS Current (Irms): 2.42A; Series: VLCF; Length: 4mm; Width: 4mm; Height: 1.8mm; Depth: 4.1mm; Radiation Hardening: No; Reach SVHC Compliant: No; Lead Free: Lead Free; RoHS Compliant: Yes; ComponentLink1URL: https://datasheet.ciiva.com/15993/e531-vlcf4018-2-15993484.pdf?src-supplier=Onlinecomponents.com; ComponentLink1Description: https://datasheet.ciiva.com/15993/e531-vlcf4018-2-15993484.pdf?src-supplier=Onlinecomponents.com; ComponentLink2URL: https://datasheet.ciiva.com/8045/321083-8045768.pdf?src-supplier=Element14; ComponentLink2Description: https://datasheet.ciiva.com/8045/321083-8045768.pdf?src-supplier=Element14
pins: 1, 2

## XTAL_SMD1612_40MHz_8pF_KDS
designator X?, comment 40MHz
XTAL SMD 1612, 40MHz, Cl=8pF, Total Tol: ±10ppm, -30 - 85C; Part Number: XTAL_SMD1612_40MHz_8pF_KDS; Manufacturer: KDS; Manufacturer Part Number: DSX1612_40MHz; Part number NEMS: 101600102; Pad Count: 4; Note: XTAL SMD 40.000MHz 8pF; Artikkelnr Noca: N.A.; Component Status: Active; PartId: 101600102; Component Class: Oscillators; Author: hany; ComponentLink1URL: N.A.; ComponentLink1Description: Datasheet; ComponentLink2URL: N.A.; ComponentLink2Description: Supplier link; HelpURL: N.A.; Footprint Doc: XTAL_1612; LatestRevisionDate: 2022-11-15; Published: 2022-11-15; Value: 40MHz; Supplier 1: N.A.; Supplier Part Number 1: N.A.; Supplier 2: N.A.; Supplier Part Number 2: N.A.; Part number IPS: N.A.; Part number Norautron: N.A.
footprint BT-XTAL_1612 (Crystal 1.6 x 1.2 mm)
pins: 1 inp, 2 GND hidden to GND, 3 out, 4 GND hidden to GND